# Altium schematic symbol library TPS2116DRLR.SchLib: 1 symbol
Pins are listed as number, name and electrical type; pins without a type are passive.

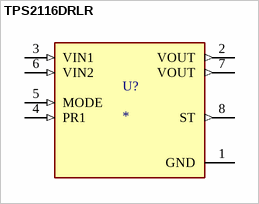
[diagram p0: symbol TPS2116DRLR]

## TPS2116DRLR
designator U?
1.6 V to 5.5 V, 2.5-A Low IQ Power Mux with Manual and Priority Switchover; MF: {'manufacturer': u'Texas Instruments'}; MP: TPS2116DRLR; Value: *; Price: None; Package: None; Availability: Unavailable
footprint SOTFL50P160X60-8N
pins: 1 GND (power), 2 VOUT (out), 3 VIN1 (in), 4 PR1 (in), 5 MODE (in), 6 VIN2 (in), 7 VOUT (out), 8 ST (out)